# Altium schematic symbol library 20682-030E-02.SchLib: 1 symbol
Pins are listed as number, name and electrical type; pins without a type are passive.

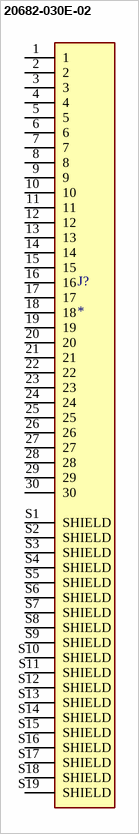
[diagram p0: symbol 20682-030E-02]

## 20682-030E-02
designator J?
Cabline-CAII Rece. Ass'y; MF: {'manufacturer': u'I-PEX'}; MP: 20682-030E-02; Value: *; Availability: Unavailable; Price: None; Package: None
footprint IPEX_20682-030E-02
pins: 1, 2, 3, 4, 5, 6, 7, 8, 9, 10, 11, 12, 13, 14, 15, 16, 17, 18, 19, 20, 21, 22, 23, 24, 25, 26, 27, 28, 29, 30, S1 SHIELD, S2 SHIELD, S3 SHIELD, S4 SHIELD, S5 SHIELD, S6 SHIELD, S7 SHIELD, S8 SHIELD, S9 SHIELD, S10 SHIELD, S11 SHIELD, S12 SHIELD, S13 SHIELD, S14 SHIELD, S15 SHIELD, S16 SHIELD, S17 SHIELD, S18 SHIELD, S19 SHIELD